# Altium footprint library PCB - MCU - NXP FCBGA 14x14_0.5P.PcbLib: 1 footprints
Each footprint in its own frame and in the unit in brackets; x right, y up, seen from the top. Pads: shape width x height; smd on the part's side, far side on the other; paste and mask are expansions set on the pad; w line width, h text height; cw(c..) or ccw(c..) is an arc to the next point about the centre after c.
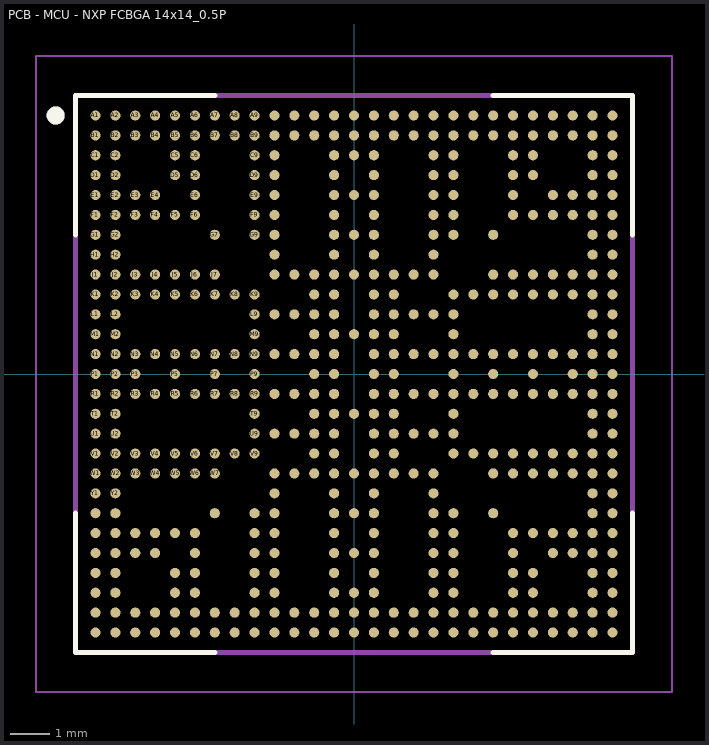
[diagram p0: the footprint, top view; thin cyan lines are the x and y axes]

## PCB - MCU - NXP FCBGA 14x14_0.5P [mil]
pads (486):
  round 10 smd: A1(-255.91,255.91) A2(-236.22,255.91) A3(-216.54,255.91) A4(-196.85,255.91) A5(-177.17,255.91) A6(-157.48,255.91) A7(-137.8,255.91) A8(-118.11,255.91) A9(-98.43,255.91) A10(-78.74,255.91) A11(-59.06,255.91) A12(-39.37,255.91) A13(-19.68,255.91) A14(0,255.91) A15(19.68,255.91) A16(39.37,255.91) A17(59.06,255.91) A18(78.74,255.91) A19(98.43,255.91) A20(118.11,255.91) A21(137.8,255.91) A22(157.48,255.91) A23(177.17,255.91) A24(196.85,255.91) A25(216.54,255.91) A26(236.22,255.91) A27(255.91,255.91) AA1(-255.91,-137.8) AA2(-236.22,-137.8) AA7(-137.8,-137.8) AA9(-98.43,-137.8) AA10(-78.74,-137.8) AA13(-19.68,-137.8) AA14(0,-137.8) AA15(19.68,-137.8) AA18(78.74,-137.8) AA19(98.43,-137.8) AA21(137.8,-137.8) AA26(236.22,-137.8) AA27(255.91,-137.8) AB1(-255.91,-157.48) AB2(-236.22,-157.48) AB3(-216.54,-157.48) AB4(-196.85,-157.48) AB5(-177.17,-157.48) AB6(-157.48,-157.48) AB9(-98.43,-157.48) AB10(-78.74,-157.48) AB13(-19.68,-157.48) AB15(19.68,-157.48) AB18(78.74,-157.48) AB19(98.43,-157.48) AB22(157.48,-157.48) AB23(177.17,-157.48) AB24(196.85,-157.48) AB25(216.54,-157.48) AB26(236.22,-157.48) AB27(255.91,-157.48) AC1(-255.91,-177.17) AC2(-236.22,-177.17) AC3(-216.54,-177.17) AC4(-196.85,-177.17) AC6(-157.48,-177.17) AC9(-98.43,-177.17) AC10(-78.74,-177.17) AC13(-19.68,-177.17) AC14(0,-177.17) AC15(19.68,-177.17) AC18(78.74,-177.17) AC19(98.43,-177.17) AC22(157.48,-177.17) AC24(196.85,-177.17) AC25(216.54,-177.17) AC26(236.22,-177.17) AC27(255.91,-177.17) AD1(-255.91,-196.85) AD2(-236.22,-196.85) AD5(-177.17,-196.85) AD6(-157.48,-196.85) AD9(-98.43,-196.85) AD10(-78.74,-196.85) AD13(-19.68,-196.85) AD15(19.68,-196.85) AD18(78.74,-196.85) AD19(98.43,-196.85) AD22(157.48,-196.85) AD23(177.17,-196.85) AD26(236.22,-196.85) AD27(255.91,-196.85) AE1(-255.91,-216.54) AE2(-236.22,-216.54) AE5(-177.17,-216.54) AE6(-157.48,-216.54) AE9(-98.43,-216.54) AE10(-78.74,-216.54) AE13(-19.68,-216.54) AE14(0,-216.54) AE15(19.68,-216.54) AE18(78.74,-216.54) AE19(98.43,-216.54) AE22(157.48,-216.54) AE23(177.17,-216.54) AE26(236.22,-216.54) AE27(255.91,-216.54) AF1(-255.91,-236.22) AF2(-236.22,-236.22) AF3(-216.54,-236.22) AF4(-196.85,-236.22) AF5(-177.17,-236.22) AF6(-157.48,-236.22) AF7(-137.8,-236.22) AF8(-118.11,-236.22) AF9(-98.43,-236.22) AF10(-78.74,-236.22) AF11(-59.06,-236.22) AF12(-39.37,-236.22) AF13(-19.68,-236.22) AF14(0,-236.22) AF15(19.68,-236.22) AF16(39.37,-236.22) AF17(59.06,-236.22) AF18(78.74,-236.22) AF19(98.43,-236.22) AF20(118.11,-236.22) AF21(137.8,-236.22) AF22(157.48,-236.22) AF23(177.17,-236.22) AF24(196.85,-236.22) AF25(216.54,-236.22) AF26(236.22,-236.22) AF27(255.91,-236.22) AG1(-255.91,-255.91) AG2(-236.22,-255.91) AG3(-216.54,-255.91) AG4(-196.85,-255.91) AG5(-177.17,-255.91) AG6(-157.48,-255.91) AG7(-137.8,-255.91) AG8(-118.11,-255.91) AG9(-98.43,-255.91) AG10(-78.74,-255.91) AG11(-59.06,-255.91) AG12(-39.37,-255.91) AG13(-19.68,-255.91) AG14(0,-255.91) AG15(19.68,-255.91) AG16(39.37,-255.91) AG17(59.06,-255.91) AG18(78.74,-255.91) AG19(98.43,-255.91) AG20(118.11,-255.91) AG21(137.8,-255.91) AG22(157.48,-255.91) AG23(177.17,-255.91) AG24(196.85,-255.91) AG25(216.54,-255.91) AG26(236.22,-255.91) AG27(255.91,-255.91) B1(-255.91,236.22) B2(-236.22,236.22) B3(-216.54,236.22) B4(-196.85,236.22) B5(-177.17,236.22) B6(-157.48,236.22) B7(-137.8,236.22) B8(-118.11,236.22) B9(-98.43,236.22) B10(-78.74,236.22) B11(-59.06,236.22) B12(-39.37,236.22) B13(-19.68,236.22) B14(0,236.22) B15(19.68,236.22) B16(39.37,236.22) B17(59.06,236.22) B18(78.74,236.22) B19(98.43,236.22) B20(118.11,236.22) B21(137.8,236.22) B22(157.48,236.22) B23(177.17,236.22) B24(196.85,236.22) B25(216.54,236.22) B26(236.22,236.22) B27(255.91,236.22) C1(-255.91,216.54) C2(-236.22,216.54) C5(-177.17,216.54) C6(-157.48,216.54) C9(-98.43,216.54) C10(-78.74,216.54) C13(-19.68,216.54) C14(0,216.54) C15(19.68,216.54) C18(78.74,216.54) C19(98.43,216.54) C22(157.48,216.54) C23(177.17,216.54) C26(236.22,216.54) C27(255.91,216.54) D1(-255.91,196.85) D2(-236.22,196.85) D5(-177.17,196.85) D6(-157.48,196.85) D9(-98.43,196.85) D10(-78.74,196.85) D13(-19.68,196.85) D15(19.68,196.85) D18(78.74,196.85) D19(98.43,196.85) D22(157.48,196.85) D23(177.17,196.85) D26(236.22,196.85) D27(255.91,196.85) E1(-255.91,177.17) E2(-236.22,177.17) E3(-216.54,177.17) E4(-196.85,177.17) E6(-157.48,177.17) E9(-98.43,177.17) E10(-78.74,177.17) E13(-19.68,177.17) E14(0,177.17) E15(19.68,177.17) E18(78.74,177.17) E19(98.43,177.17) E22(157.48,177.17) E24(196.85,177.17) E25(216.54,177.17) E26(236.22,177.17) E27(255.91,177.17) F1(-255.91,157.48) F2(-236.22,157.48) F3(-216.54,157.48) F4(-196.85,157.48) F5(-177.17,157.48) F6(-157.48,157.48) F9(-98.43,157.48) F10(-78.74,157.48) F13(-19.68,157.48) F15(19.68,157.48) F18(78.74,157.48) F19(98.43,157.48) F22(157.48,157.48) F23(177.17,157.48) F24(196.85,157.48) F25(216.54,157.48) F26(236.22,157.48) F27(255.91,157.48) G1(-255.91,137.8) G2(-236.22,137.8) G7(-137.8,137.8) G9(-98.43,137.8) G10(-78.74,137.8) G13(-19.68,137.8) G14(0,137.8) G15(19.68,137.8) G18(78.74,137.8) G19(98.43,137.8) G21(137.8,137.8) G26(236.22,137.8) G27(255.91,137.8) H1(-255.91,118.11) H2(-236.22,118.11) H10(-78.74,118.11) H13(-19.68,118.11) H15(19.68,118.11) H18(78.74,118.11) H26(236.22,118.11) H27(255.91,118.11) J1(-255.91,98.43) J2(-236.22,98.43) J3(-216.54,98.43) J4(-196.85,98.43) J5(-177.17,98.43) J6(-157.48,98.43) J7(-137.8,98.43) J10(-78.74,98.43) J11(-59.06,98.43) J12(-39.37,98.43) J13(-19.68,98.43) J14(0,98.43) J15(19.68,98.43) J16(39.37,98.43) J17(59.06,98.43) J18(78.74,98.43) J21(137.8,98.43) J22(157.48,98.43) J23(177.17,98.43) J24(196.85,98.43) J25(216.54,98.43) J26(236.22,98.43) J27(255.91,98.43) K1(-255.91,78.74) K2(-236.22,78.74) K3(-216.54,78.74) K4(-196.85,78.74) K5(-177.17,78.74) K6(-157.48,78.74) K7(-137.8,78.74) K8(-118.11,78.74) K9(-98.43,78.74) K12(-39.37,78.74) K13(-19.68,78.74) K15(19.68,78.74) K16(39.37,78.74) K19(98.43,78.74) K20(118.11,78.74) K21(137.8,78.74) K22(157.48,78.74) K23(177.17,78.74) K24(196.85,78.74) K25(216.54,78.74) K26(236.22,78.74) K27(255.91,78.74) L1(-255.91,59.06) L2(-236.22,59.06) L9(-98.43,59.06) L10(-78.74,59.06) L11(-59.06,59.06) L12(-39.37,59.06) L13(-19.68,59.06) L15(19.68,59.06) L16(39.37,59.06) L17(59.06,59.06) L18(78.74,59.06) L19(98.43,59.06) L26(236.22,59.06) L27(255.91,59.06) M1(-255.91,39.37) M2(-236.22,39.37) M9(-98.43,39.37) M12(-39.37,39.37) M13(-19.68,39.37) M14(0,39.37) M15(19.68,39.37) M16(39.37,39.37) M19(98.43,39.37) M26(236.22,39.37) M27(255.91,39.37) N1(-255.91,19.68) N2(-236.22,19.68) N3(-216.54,19.68) N4(-196.85,19.68) N5(-177.17,19.68) N6(-157.48,19.68) N7(-137.8,19.68) N8(-118.11,19.68) N9(-98.43,19.68) N10(-78.74,19.68) N11(-59.06,19.68) N12(-39.37,19.68) N13(-19.68,19.68) N15(19.68,19.68) N16(39.37,19.68) N17(59.06,19.68) N18(78.74,19.68) N19(98.43,19.68) N20(118.11,19.68) N21(137.8,19.68) N22(157.48,19.68) N23(177.17,19.68) N24(196.85,19.68) N25(216.54,19.68) N26(236.22,19.68) N27(255.91,19.68) P1(-255.91,0) P2(-236.22,0) P3(-216.54,0) P5(-177.17,0) P7(-137.8,0) P9(-98.43,0) P12(-39.37,0) P13(-19.68,0) P15(19.68,0) P16(39.37,0) P19(98.43,0) P21(137.8,0) P23(177.17,0) P25(216.54,0) P26(236.22,0) P27(255.91,0) R1(-255.91,-19.68) R2(-236.22,-19.68) R3(-216.54,-19.68) R4(-196.85,-19.68) R5(-177.17,-19.68) R6(-157.48,-19.68) R7(-137.8,-19.68) R8(-118.11,-19.68) R9(-98.43,-19.68) R10(-78.74,-19.68) R11(-59.06,-19.68) R12(-39.37,-19.68) R13(-19.68,-19.68) R15(19.68,-19.68) R16(39.37,-19.68) R17(59.06,-19.68) R18(78.74,-19.68) R19(98.43,-19.68) R20(118.11,-19.68) R21(137.8,-19.68) R22(157.48,-19.68) R23(177.17,-19.68) R24(196.85,-19.68) R25(216.54,-19.68) R26(236.22,-19.68) R27(255.91,-19.68) T1(-255.91,-39.37) T2(-236.22,-39.37) T9(-98.43,-39.37) T12(-39.37,-39.37) T13(-19.68,-39.37) T14(0,-39.37) T15(19.68,-39.37) T16(39.37,-39.37) T19(98.43,-39.37) T26(236.22,-39.37) T27(255.91,-39.37) U1(-255.91,-59.06) U2(-236.22,-59.06) U9(-98.43,-59.06) U10(-78.74,-59.06) U11(-59.06,-59.06) U12(-39.37,-59.06) U13(-19.68,-59.06) U15(19.68,-59.06) U16(39.37,-59.06) U17(59.06,-59.06) U18(78.74,-59.06) U19(98.43,-59.06) U26(236.22,-59.06) U27(255.91,-59.06) V1(-255.91,-78.74) V2(-236.22,-78.74) V3(-216.54,-78.74) V4(-196.85,-78.74) V5(-177.17,-78.74) V6(-157.48,-78.74) V7(-137.8,-78.74) V8(-118.11,-78.74) V9(-98.43,-78.74) V12(-39.37,-78.74) V13(-19.68,-78.74) V15(19.68,-78.74) V16(39.37,-78.74) V19(98.43,-78.74) V20(118.11,-78.74) V21(137.8,-78.74) V22(157.48,-78.74) V23(177.17,-78.74) V24(196.85,-78.74) V25(216.54,-78.74) V26(236.22,-78.74) V27(255.91,-78.74) W1(-255.91,-98.43) W2(-236.22,-98.43) W3(-216.54,-98.43) W4(-196.85,-98.43) W5(-177.17,-98.43) W6(-157.48,-98.43) W7(-137.8,-98.43) W10(-78.74,-98.43) W11(-59.06,-98.43) W12(-39.37,-98.43) W13(-19.68,-98.43) W14(0,-98.43) W15(19.68,-98.43) W16(39.37,-98.43) W17(59.06,-98.43) W18(78.74,-98.43) W21(137.8,-98.43) W22(157.48,-98.43) W23(177.17,-98.43) W24(196.85,-98.43) W25(216.54,-98.43) W26(236.22,-98.43) W27(255.91,-98.43) Y1(-255.91,-118.11) Y2(-236.22,-118.11) Y10(-78.74,-118.11) Y13(-19.68,-118.11) Y15(19.68,-118.11) Y18(78.74,-118.11) Y26(236.22,-118.11) Y27(255.91,-118.11)
Top Overlay:
  circle w10: c-295.28,255.91 r3.94
  lines w5: -275.59,-137.8 -275.59,-275.59 -137.8,-275.59 ; -275.59,137.8 -275.59,275.59 -137.8,275.59 ; 137.8,-275.59 275.59,-275.59 275.59,-137.8 ; 137.8,275.59 275.59,275.59 275.59,137.8
Mechanical 13:
  circle w10: c-295.28,255.91 r3.94
  lines w5: -275.59,-275.59 -275.59,275.59 275.59,275.59 275.59,-275.59 -275.59,-275.59
Mechanical 15:
  lines w1.97: -314.96,-314.96 -314.96,314.96 314.96,314.96 314.96,-314.96 -314.96,-314.96
3D body "MIMX8MN6DVTJZAA--3DModel-STEP-56544.STEP": height 49.21, standoff 0, extent -275.59,-275.59 275.59,275.59